# Altium footprint library E209_Footprints.PcbLib: 40 footprints (part 3 of 3)
Each footprint in its own frame and in the unit in brackets; x right, y up, seen from the top. Pads: shape width x height; smd on the part's side, far side on the other; paste and mask are expansions set on the pad; w line width, h text height; cw(c..) or ccw(c..) is an arc to the next point about the centre after c.
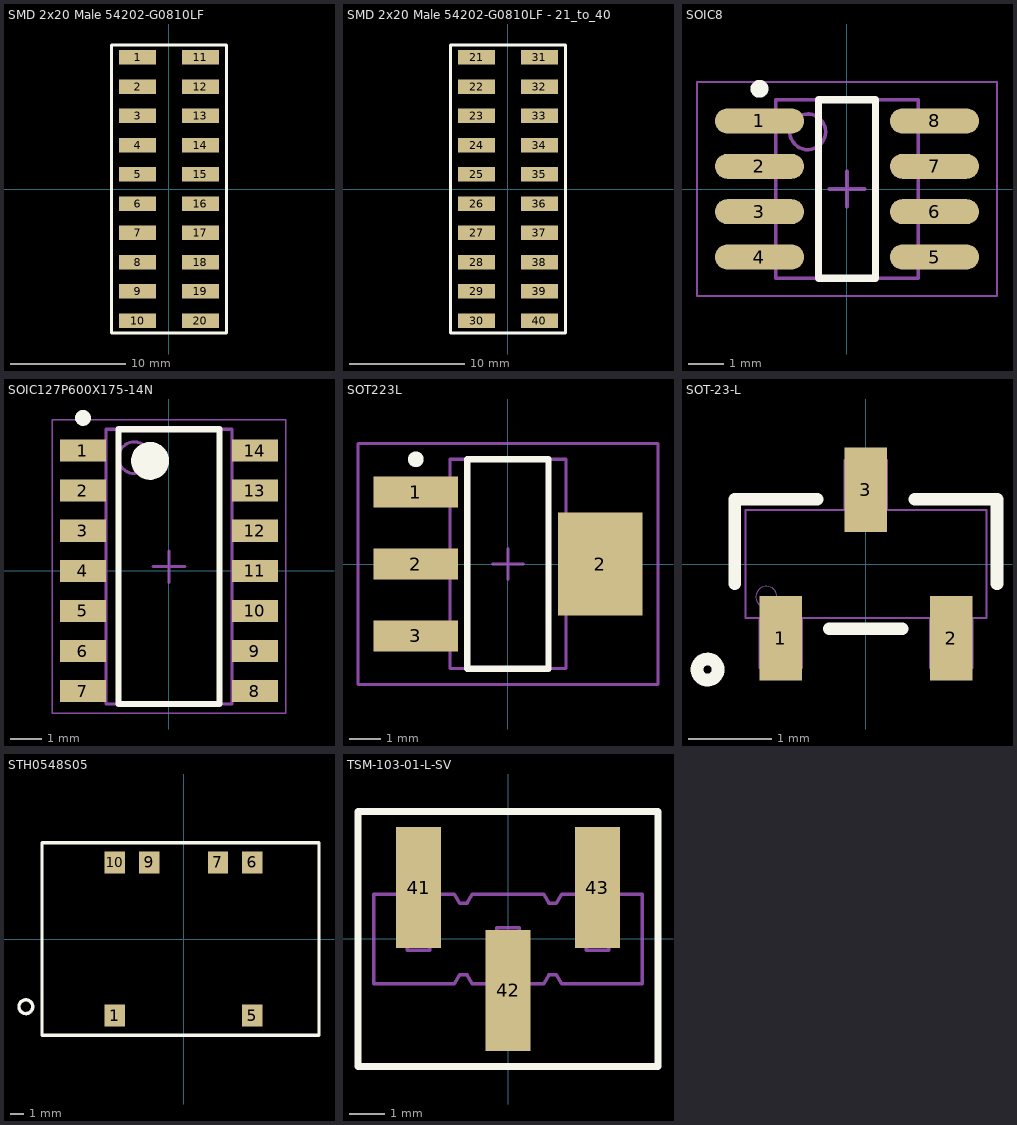
[diagram p2: the footprints below, top view; thin cyan lines are the x and y axes]

## SMD 2x20 Male 54202-G0810LF [mm] "Headers & Wire Housings 20P UNSHRD VERT HDR .76 MICROMETER AU"
pads (20):
  rect 3.18x1.27 smd: 1(-2.73,11.43) 2(-2.73,8.89) 3(-2.73,6.35) 4(-2.73,3.81) 5(-2.73,1.27) 6(-2.73,-1.27) 7(-2.73,-3.81) 8(-2.73,-6.35) 9(-2.73,-8.89) 10(-2.73,-11.43) 11(2.73,11.43) 12(2.73,8.89) 13(2.73,6.35) 14(2.73,3.81) 15(2.73,1.27) 16(2.73,-1.27) 17(2.73,-3.81) 18(2.73,-6.35) 19(2.73,-8.89) 20(2.73,-11.43)
Top Overlay:
  lines w0.254: -5,-12.5 5,-12.5 5,12.5 -5,12.5 -5,-12.5
3D body "User Library-20-pin SMT header.STEP": height 10.3, standoff -0.01, extent -3.937,-12.624 4.065,12.776

## SMD 2x20 Male 54202-G0810LF - 21_to_40 [mm] "Headers & Wire Housings 20P UNSHRD VERT HDR .76 MICROMETER AU"
pads (20):
  rect 3.18x1.27 smd: 21(-2.73,11.43) 22(-2.73,8.89) 23(-2.73,6.35) 24(-2.73,3.81) 25(-2.73,1.27) 26(-2.73,-1.27) 27(-2.73,-3.81) 28(-2.73,-6.35) 29(-2.73,-8.89) 30(-2.73,-11.43) 31(2.73,11.43) 32(2.73,8.89) 33(2.73,6.35) 34(2.73,3.81) 35(2.73,1.27) 36(2.73,-1.27) 37(2.73,-3.81) 38(2.73,-6.35) 39(2.73,-8.89) 40(2.73,-11.43)
Top Overlay:
  lines w0.254: -5,-12.5 -5,12.5 5,12.5 5,-12.5 -5,-12.5
3D body "User Library-20-pin SMT header.STEP": height 10.3, standoff -0.01, extent -3.963,-12.675 4.04,12.725

## SOIC8 [mm]
pads (8):
  oval 2.5x0.7 smd: 1(-2.45,1.905) 2(-2.45,0.635) 3(-2.45,-0.635) 4(-2.45,-1.905) 5(2.45,-1.905) 6(2.45,-0.635) 7(2.45,0.635) 8(2.45,1.905)
Top Overlay:
  circle w0.25: c-2.45,2.805 r0.125
  lines w0.2: -0.8,-2.5 -0.8,2.5 0.8,2.5 0.8,-2.5 -0.8,-2.5
Mechanical 13:
  circle w0.1: c-1.1,1.6 r0.5
  lines w0.1: -2,-2.5 -2,2.5 2,2.5 2,-2.5 -2,-2.5
Mechanical 15:
  lines w0.05: -4.2,-3 -4.2,3 4.2,3 4.2,-3 -4.2,-3
  lines w0.1: -0.5,0 0.5,0 ; 0,-0.5 0,0.5
3D body "SO-8_S.step": height 1.76, standoff 0, extent -3.099,-2.502 3.099,2.502

## SOIC127P600X175-14N [mm] "SOIC, 14-Leads, Body 8.65x3.90mm, Pitch 1.27mm, IPC Medium Density"
height 1.75
pads (14):
  rect 1.45x0.7 smd: 1(-2.725,3.81) 2(-2.725,2.54) 3(-2.725,1.27) 4(-2.725,0) 5(-2.725,-1.27) 6(-2.725,-2.54) 7(-2.725,-3.81) 8(2.725,-3.81) 9(2.725,-2.54) 10(2.725,-1.27) 11(2.725,0) 12(2.725,1.27) 13(2.725,2.54) 14(2.725,3.81)
Top Overlay:
  circle w0.6: c-0.597,3.485 r0.3
  circle w0.25: c-2.722,4.845 r0.125
  lines w0.2: -1.597,-4.215 1.603,-4.215 1.603,4.485 -1.597,4.485 -1.597,-4.215
Mechanical 13:
  circle w0.1: c-1.097,3.585 r0.5
  lines w0.1: -1.997,-4.215 2.003,-4.215 2.003,4.485 -1.997,4.485 -1.997,-4.215
Mechanical 15:
  lines w0.05: -3.697,-4.515 3.703,-4.515 3.703,4.785 -3.697,4.785 -3.697,-4.515
  lines w0.1: -0.497,0.135 0.503,0.135 ; 0.003,-0.365 0.003,0.635
3D body "Infineon-STP_PG-DSO-14-903-P-v01_00-EN.stp": height 1.56, standoff 0, extent -2.997,-4.19 3.003,4.46

## SOT223L [mm] "SOT223/SC73, 4-Leads, Body 6.5x3.5mm, Pitch 2.3mm, Lead Span 7mm, IPC Low Density"
height 1.8
pads (4):
  rect 2.7x1 smd: 1(-2.95,2.3) 2(-2.95,0) 3(-2.95,-2.3)
  rect 2.7x3.3 smd: 2(2.95,0)
Top Overlay:
  circle w0.25: c-2.95,3.35 r0.125
  lines w0.2: -1.3,-3.35 1.3,-3.35 1.3,3.35 -1.3,3.35 -1.3,-3.35
Mechanical 13:
  lines w0.1: -1.85,-3.35 1.85,-3.35 1.85,3.35 -1.85,3.35 -1.85,-3.35
Mechanical 15:
  lines w0.1: -0.5,0 0.5,0 ; 0,-0.5 0,0.5 ; -4.8,-3.85 4.8,-3.85 4.8,3.85 -4.8,3.85 -4.8,-3.85
3D body "sot223_p2-3_l6-7_w3-7.stp": height 1.83, standoff 0.03, extent -3.65,-3.35 3.65,3.35

## SOT-23-L [mm]
pads (3):
  rect 0.51x1.016 smd paste+0 mask+0: 1(-1.025,-0.894) 2(1.025,-0.894) 3(0,0.894)
Top Overlay:
  circle w0.152: c-1.905,-1.27 r0.127
  lines w0.152: -1.577,-0.236 -1.577,0.777 -0.588,0.777 ; -0.437,-0.777 0.437,-0.777 ; 0.588,0.777 1.577,0.777 1.577,-0.236
Mechanical 13:
  circle w0: c-1.196,-0.396 r0.127
  lines w0.025: -1.45,-0.65 -1.45,0.65 1.45,0.65 1.45,-0.65 -1.45,-0.65 ; -1.28,-1.25 -0.77,-1.25 -0.77,-0.65 -1.28,-0.65 -1.28,-1.25 ; -0.255,0.65 -0.255,1.25 0.255,1.25 0.255,0.65 -0.255,0.65 ; 0.77,-1.25 1.28,-1.25 1.28,-0.65 0.77,-0.65 0.77,-1.25
3D body "sot23-3_p0-95_l3-04_w1-4.stp": height 1.02, standoff -0.02, extent -1.52,-1.32 1.52,1.32

## STH0548S05 [mm]
pads (6):
  rect 1.5x1.61 smd: 1(-5.08,-5.655) 5(5.08,-5.655) 6(5.08,5.655) 7(2.54,5.655) 9(-2.54,5.655) 10(-5.08,5.655)
Top Overlay:
  circle w0.254: c-11.659,-5.004 r0.508
  lines w0.254: -10.465,-7.112 10.008,-7.112 10.008,7.112 -10.465,7.112 -10.465,-7.112
3D body "STH05.STEP": height 5.1, standoff 0.05, extent -9.979,-5.849 9.522,5.951

## TSM-103-01-L-SV [mm]
pads (3):
  rect 1.27x3.43 smd: 41(-2.54,1.46) 42(0,-1.46) 43(2.54,1.46)
Top Overlay:
  lines w0.2: -4.26,-3.627 4.26,-3.627 4.26,3.626 -4.26,3.626 -4.26,-3.627
Top Paste:
  region: 1.905,3.175 3.175,3.175 3.175,-0.255 1.905,-0.255
  region: -0.635,0.255 0.635,0.255 0.635,-3.175 -0.635,-3.175
  region: -3.175,3.175 -1.905,3.175 -1.905,-0.255 -3.175,-0.255
Top Solder:
  region: 1.854,3.226 3.226,3.226 3.226,-0.306 1.854,-0.306
  region: -0.686,0.306 0.686,0.306 0.686,-3.226 -0.686,-3.226
  region: -3.226,3.226 -1.854,3.226 -1.854,-0.306 -3.226,-0.306
Mechanical 13:
  lines w0.1: -4.26,-3.627 4.26,-3.627 ; -4.26,-3.627 -4.26,3.626 ; -4.26,-3.627 4.26,-3.627 ; -4.26,-3.627 -4.26,3.626 ; -4.26,3.626 4.26,3.626 ; -4.26,3.626 4.26,3.626 ; -3.81,-1.27 -3.81,-1.016 ; -3.81,-1.27 -1.523,-1.27 ; -3.81,-1.27 -3.81,-1.016 ; -3.81,-1.27 -1.523,-1.27 ; -3.81,-1.016 -3.81,1.016 ; -3.81,-1.016 -3.81,1.016 ; -3.81,1.016 -3.81,1.27 ; -3.81,1.016 -3.81,1.27 ; -3.81,1.27 -1.523,1.27 ; -3.81,1.27 -1.523,1.27 ; -2.856,-0.318 -2.221,-0.318 ; -2.856,-0.318 -2.856,0.318 ; -2.856,-0.318 -2.221,-0.318 ; -2.856,-0.318 -2.856,0.318 ; -2.856,0.318 -2.221,0.318 ; -2.856,0.318 -2.221,0.318 ; -2.856,2.642 -2.221,2.642 ; -2.856,2.642 -2.856,1.27 -2.856,2.642 ; -2.856,2.642 -2.221,2.642 ; -2.221,-0.318 -2.221,0.318 ; -2.221,-0.318 -2.221,0.318 ; -2.221,2.642 -2.221,1.27 -2.221,2.642 ; -1.523,-1.27 -1.376,-1.016 ; -1.523,-1.27 -1.376,-1.016 ; -1.523,1.27 -1.376,1.016 ; -1.523,1.27 -1.376,1.016 ; -1.376,-1.016 -1.27,-1.016 ; -1.376,-1.016 -1.27,-1.016 ; -1.376,1.016 -1.27,1.016 ; -1.376,1.016 -1.27,1.016 ; -1.27,-1.016 -1.164,-1.016 ; -1.27,-1.016 -1.164,-1.016 ; -1.27,1.016 -1.164,1.016 ; -1.27,1.016 -1.164,1.016 ; -1.164,-1.016 -1.017,-1.27 ; -1.164,-1.016 -1.017,-1.27 ; -1.164,1.016 -1.017,1.27 ; -1.164,1.016 -1.017,1.27 ; -1.017,-1.27 1.017,-1.27 ; -1.017,-1.27 1.017,-1.27 ; -1.017,1.27 1.017,1.27 ; -1.017,1.27 1.017,1.27 ; -0.319,-2.642 0.316,-2.642 ; -0.319,-2.642 -0.319,-1.27 -0.319,-2.642 ; -0.319,-2.642 0.316,-2.642 ; -0.319,-0.318 0.316,-0.318 ; -0.319,-0.318 -0.319,0.318 ; -0.319,-0.318 0.316,-0.318 ; -0.319,-0.318 -0.319,0.318 ; -0.319,0.318 0.316,0.318 ; -0.319,0.318 0.316,0.318 ; 0.316,-2.642 0.316,-1.27 0.316,-2.642 ; 0.316,-0.318 0.316,0.318 ; 0.316,-0.318 0.316,0.318 ; 1.017,-1.27 1.164,-1.016 ; 1.017,-1.27 1.164,-1.016 ; 1.017,1.27 1.164,1.016 ; 1.017,1.27 1.164,1.016 ; 1.164,-1.016 1.271,-1.016 1.164,-1.016 ; 1.164,1.016 1.271,1.016 1.164,1.016 ; 1.376,-1.016 1.523,-1.27 ; 1.376,-1.016 1.27,-1.016 1.376,-1.016 ; 1.376,-1.016 1.523,-1.27 ; 1.376,1.016 1.27,1.016 1.376,1.016 ; 1.376,1.016 1.523,1.27 ; 1.376,1.016 1.523,1.27 ; 1.523,-1.27 3.81,-1.27 ; 1.523,-1.27 3.81,-1.27 ; 1.523,1.27 3.81,1.27 ; 1.523,1.27 3.81,1.27 ; 2.224,-0.318 2.859,-0.318 ; 2.224,-0.318 2.224,0.318 ; 2.224,-0.318 2.859,-0.318 ; 2.224,-0.318 2.224,0.318 ; 2.224,0.318 2.859,0.318 ; 2.224,0.318 2.859,0.318 ; 2.224,2.642 2.859,2.642 ; 2.224,2.642 2.224,1.27 2.224,2.642 ; 2.224,2.642 2.859,2.642 ; 2.859,-0.318 2.859,0.318 ; 2.859,-0.318 2.859,0.318 ; 2.859,2.642 2.859,1.27 2.859,2.642 ; 3.81,-1.27 3.81,-1.016 ; 3.81,-1.27 3.81,-1.016 ; 3.81,-1.016 3.81,1.016 ; 3.81,-1.016 3.81,1.016 ; 3.81,1.016 3.81,1.27 ; 3.81,1.016 3.81,1.27 ; 4.26,-3.627 4.26,3.626 ; 4.26,-3.627 4.26,3.626
3D body "User Library-header1x3 1241150-3.step": height 10.16, standoff 0, extent -3.81,-2.387 3.81,2.693